# Altium schematic symbol library VP809REURT.SchLib: 1 symbol
Pins are listed as number, name and electrical type; pins without a type are passive.

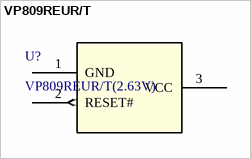
[diagram p0: symbol VP809REUR/T]

## VP809REUR/T
designator U?, comment VP809REUR/T(2.63V)
No Description Available; Mfr_Name: Analog Devices Inc; RefDes: RefDes; Type: Type
footprint 21-0051H_MXM
pins: 1 GND (power), 2 RESET# (out), 3 VCC (power)